# Altium schematic symbol library MT6835.SchLib: 1 symbol
Pins are listed as number, name and electrical type; pins without a type are passive.

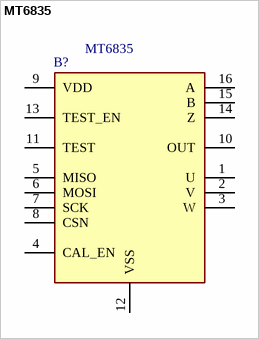
[diagram p0: symbol MT6835]

## MT6835
designator B?
21-Bit High Accuracy Magnetic Angle Encoder IC; Manufacturer_Name: NOVOSENSE; Geometry.Height: 1.2mm; Manufacturer_Part_Number: MT6835; Mouser Part Number: *; Mouser Price/Stock: *; Arrow Part Number: *; Arrow Price/Stock: *; Datasheet Link: https://www.novosns.com/enfiles/MT6835_Rev.1.3.pdf
footprint SOP65P640X120-16N
pins: 1 U, 2 V, 3 W, 4 CAL_EN, 5 MISO, 6 MOSI, 7 SCK, 8 CSN, 9 VDD, 10 OUT, 11 TEST, 12 VSS, 13 TEST_EN, 14 Z, 15 B, 16 A